# EAGLE library part FPC-35WAY (library pimoroni-fpc)
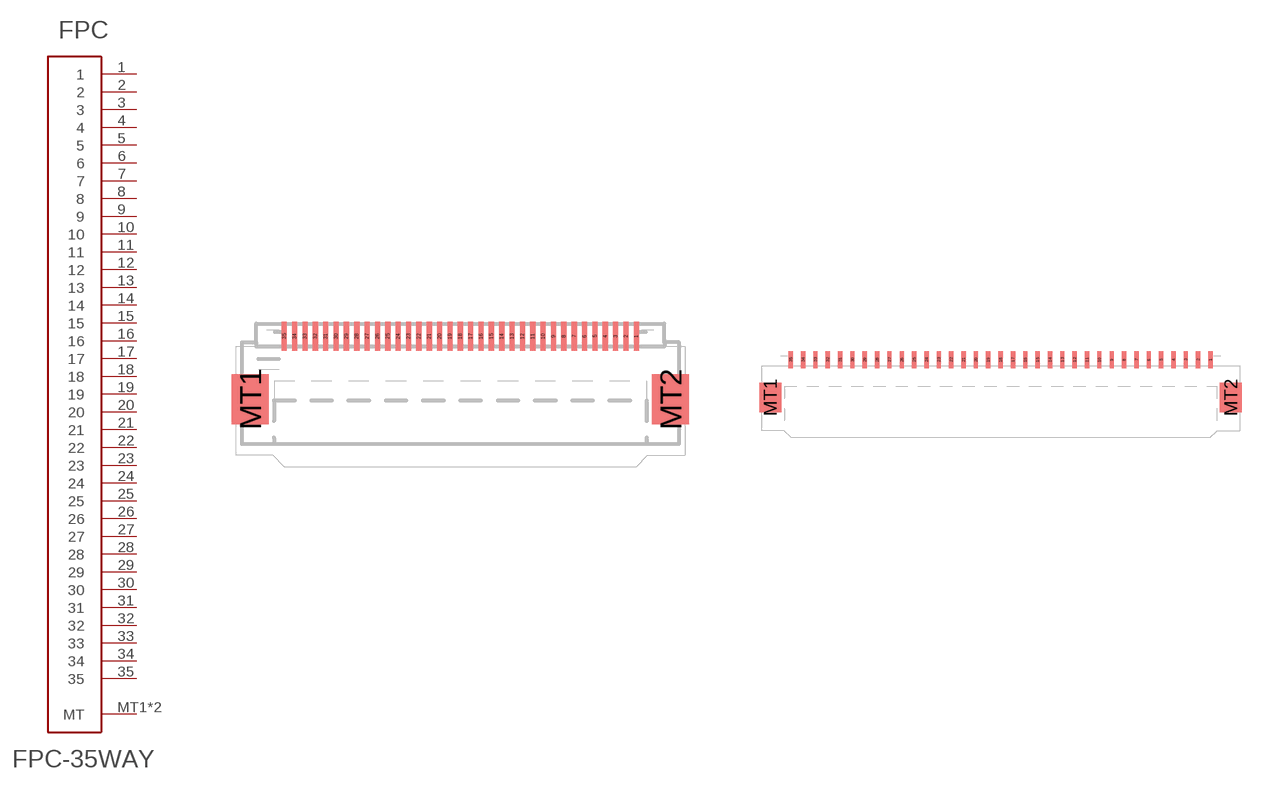
[diagram p30: symbol with the pads of FPC-0.5MM-35WAY; footprints FPC-0.5MM-35WAY, FPC-1.0MM-35WAY]

Designator prefix FPC

## FPC-35WAY0.5  [FPC-0.5MM-35WAY]
1  1
2  2
3  3
4  4
5  5
6  6
7  7
8  8
9  9
10  10
11  11
12  12
13  13
14  14
15  15
16  16
17  17
18  18
19  19
20  20
21  21
22  22
23  23
24  24
25  25
26  26
27  27
28  28
29  29
30  30
31  31
32  32
33  33
34  34
35  35
MT1  MT
MT2  MT

## FPC-35WAY1.0  [FPC-1.0MM-35WAY]
Pads as for FPC-0.5MM-35WAY

## Footprint FPC-0.5MM-35WAY (pad centres in mm)
smd 0.25 x 1.4: 1 8.5,0.7; 2 8,0.7; 3 7.5,0.7; 4 7,0.7; 5 6.5,0.7; 6 6,0.7; 7 5.5,0.7; 8 5,0.7; 9 4.5,0.7; 10 4,0.7; 11 3.5,0.7; 12 3,0.7; 13 2.5,0.7; 14 2,0.7; 15 1.5,0.7; 16 1,0.7; 17 0.5,0.7; 18 0,0.7; 19 -0.5,0.7; 20 -1,0.7; 21 -1.5,0.7; 22 -2,0.7; 23 -2.5,0.7; 24 -3,0.7; 25 -3.5,0.7; 26 -4,0.7; 27 -4.5,0.7; 28 -5,0.7; 29 -5.5,0.7; 30 -6,0.7; 31 -6.5,0.7; 32 -7,0.7; 33 -7.5,0.7; 34 -8,0.7; 35 -8.5,0.7
smd 1.8 x 2.4: MT1 -10.15,-2.35; MT2 10.15,-2.35

## Footprint FPC-1.0MM-35WAY (pad centres in mm)
smd 0.35 x 1.4: 1 17,0.7; 2 16,0.7; 3 15,0.7; 4 14,0.7; 5 13,0.7; 6 12,0.7; 7 11,0.7; 8 10,0.7; 9 9,0.7; 10 8,0.7; 11 7,0.7; 12 6,0.7; 13 5,0.7; 14 4,0.7; 15 3,0.7; 16 2,0.7; 17 1,0.7; 18 0,0.7; 19 -1,0.7; 20 -2,0.7; 21 -3,0.7; 22 -4,0.7; 23 -5,0.7; 24 -6,0.7; 25 -7,0.7; 26 -8,0.7; 27 -9,0.7; 28 -10,0.7; 29 -11,0.7; 30 -12,0.7; 31 -13,0.7; 32 -14,0.7; 33 -15,0.7; 34 -16,0.7; 35 -17,0.7
smd 1.8 x 2.4: MT1 -18.65,-2.35; MT2 18.65,-2.35